# Altium schematic symbol library ME2108A.SchLib: 1 symbol
Pins are listed as number, name and electrical type; pins without a type are passive.

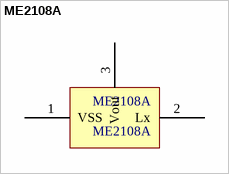
[diagram p0: symbol ME2108A]

## ME2108A
designator ME2108A
pins: 1 VSS, 2 Lx, 3 Vout